# Altium footprint library VDFPN-8(MLP-8).PcbLib: 1 footprints
Each footprint in its own frame and in the unit in brackets; x right, y up, seen from the top. Pads: shape width x height; smd on the part's side, far side on the other; paste and mask are expansions set on the pad; w line width, h text height; cw(c..) or ccw(c..) is an arc to the next point about the centre after c.
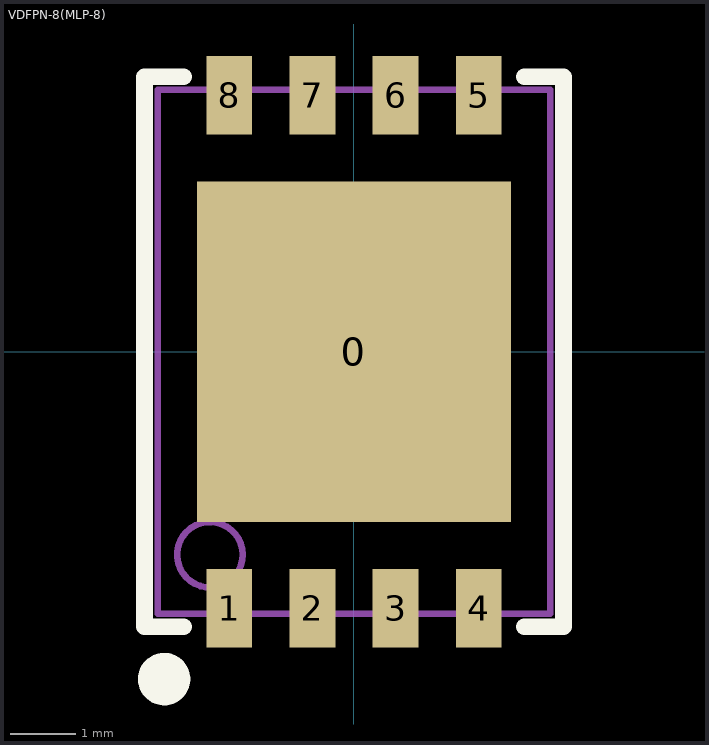
[diagram p0: the footprint, top view; thin cyan lines are the x and y axes]

## VDFPN-8(MLP-8) [mm]
pads (9):
  rect 4.8x5.2 smd: 0(0,0)
  rect 0.7x1.2 smd: 1(-1.905,-3.92) 2(-0.635,-3.92) 3(0.635,-3.92) 4(1.905,-3.92) 5(1.905,3.92) 6(0.635,3.92) 7(-0.635,3.92) 8(-1.905,3.92)
Top Overlay:
  circle w0.4: c-2.9,-5 r0.2
  lines w0.254: -2.6,-4.2 -3.2,-4.2 -3.2,4.2 -2.6,4.2 ; 2.6,-4.2 3.2,-4.2 3.2,4.2 2.6,4.2
Mechanical 13:
  circle w0.1: c-2.2,-3.1 r0.5
  lines w0.1: -3,-4 -3,4 3,4 3,-4 -3,-4